# EAGLE library part 691401700006 (library Wurth_Elektronik_Electromechanic_Terminal_Blocks_Connectors_rev16b)
WR-TBL Terminal block - serie 401 5,0mm - Spring clamp/Screw less - Vertical entry - 06p Code:Con_TBL_Screwless_5.00_6914017000xx_691401700006 Created 2014-12-22, aslant tao 2014 (C) Würth Elektronik
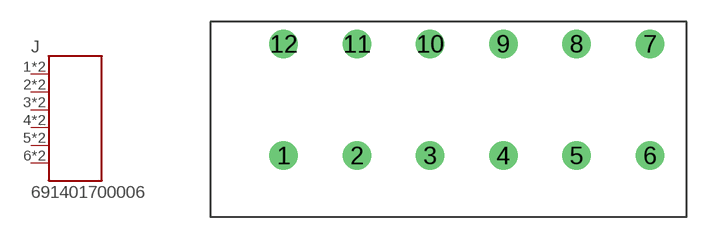
[diagram p234: symbol with the pads of 691401700006; footprint 691401700006]

Designator prefix J

## 691401700006  [691401700006]
1  1  pas
2  2  pas
3  3  pas
4  4  pas
5  5  pas
6  6  pas
7  6  pas
8  5  pas
9  4  pas
10  3  pas
11  2  pas
12  1  pas

## Footprint 691401700006 (pad centres in mm)
WR-TBL Serie 401 - 5.0mm Screwless Vertikal Entry - 2 mm2 Wires, 6 Pins
drill 1.3: 1 -5,0; 2 0,0; 3 5,0; 4 10,0; 5 15,0; 6 20,0; 7 20,7.62; 8 15,7.62; 9 10,7.62; 10 5,7.62; 11 0,7.62; 12 -5,7.62